# Altium integrated library AHT10 MODULE.IntLib: 1 symbol
Pins are listed as number, name and electrical type; pins without a type are passive.

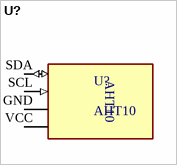
[diagram p0: symbol U?]

## U?
designator U?, comment AHT10
footprint AHT10 MODULE (AHT10)
pins: GND (power), SCL (in), SDA (io), VCC (power)